# Altium schematic symbol library SXN.SchLib: 2 symbols
Pins are listed as number, name and electrical type; pins without a type are passive.

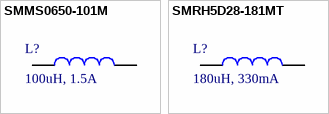
[diagram p0: symbols SMMS0650-101M to SMRH5D28-181MT]

## SMMS0650-101M
designator L?, comment 100uH, 1.5A
1.5A 100uH 2A 720mΩ ±20% SMD,7.1x6.6mm Fixed Inductors RoHS; Manufacturer: Shun Xiang Nuo; Manufacturer Part Number: SMMS0650-101M; Rated Voltage: 30VDC; ComponentLink1Description: Datasheet; ComponentLink1URL: https://www.lcsc.com/datasheet/C2894722.pdf; DC Resistance max.: 720mΩ; DC Resistance typ.: N/A; Inductance: 100uH; LCSC Part #: C2894722; Mount: SMD/SMT; Operating Temperature: -40 to +125degC; Packaging: Tape and Reel; Rated Current: 1.5A; Saturation Current: 2A; Self Resonant Frequency: N/A; Size: 0650; Supplier 1: Mouser; Supplier 1 Part Number: N/A; Supplier 1 URL: N/A; Supplier 2: Digi-Key; Supplier 2 Part Number: N/A; Supplier 2 URL: N/A; Supplier 3: thegioiic; Supplier 3 Part Number: N/A; Supplier 3 URL: N/A; Value: 100uH, 1.5A
footprint SMMS0650 (Precision Wire Wound Inductor, 2-Leads, Body 7.00x6.60mm, IPC Medium Density)
pins: 1, 2

## SMRH5D28-181MT
designator L?, comment 180uH, 330mA
330mA 180uH 330mA 980mΩ ±20% SMD,6x6mm Fixed Inductors RoHS; Manufacturer: Shun Xiang Nuo; Manufacturer Part Number: SMRH5D28-181MT; Rated Voltage: 30VDC; ComponentLink1Description: Datasheet; ComponentLink1URL: https://www.lcsc.com/datasheet/C5360775.pdf?spm=wm.sxq.inf.ggs___wm.fly.bg.13.xh&lcsc_vid=RlFZBAcEEVlbVldRT1FeU1xfQgQKXlVXElYPAVNQTwUxVlNeQlNXUF1RQVZfUDsOAxUeFF5JWBYZEEoKFBINSQcJGk4%3D; DC Resistance max.: 980mΩ; DC Resistance typ.: N/A; Inductance: 180uH; LCSC Part #: C5360775; Mount: SMD/SMT; Operating Temperature: -40 to +125degC; Packaging: Tape and Reel; Rated Current: 330mA; Saturation Current: 330mA; Self Resonant Frequency: N/A; Size: 5D28; Supplier 1: Mouser; Supplier 1 Part Number: N/A; Supplier 1 URL: N/A; Supplier 2: Digi-Key; Supplier 2 Part Number: N/A; Supplier 2 URL: N/A; Supplier 3: thegioiic; Supplier 3 Part Number: N/A; Supplier 3 URL: N/A; Value: 180uH, 330mA
footprint 5D28 (Precision Wire Wound Inductor, 2-Leads, Body 6.00x6.00mm, IPC Medium Density)
pins: 1, 2